# EAGLE library part 95278-801A30LF (library SamacSys_Parts)
BergStik, Board to Board connector, Unshrouded Header, SMT, Double Row, 30 Positions, 2.54 mm Pitch, Vertical, 5.84 mm (0.23 in.) Mating Source: Datasheet <https://componentsearchengine.com/Datasheets/1/95278-801A30LF.pdf>
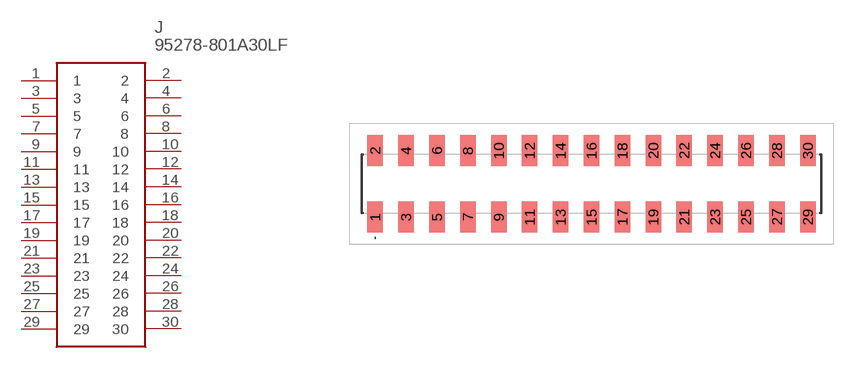
[diagram p135: symbol with the pads of 95278801A30LF; footprint 95278801A30LF]

Designator prefix J

## 95278-801A30LF (DESCRIPTION: BergStik, Board to Board connector, Unshrouded Header, SMT, Double Row, 30 Positions, 2.54 mm Pitch, Vertical, 5.84 mm (0.23 in.) Mating; HEIGHT: 9.9mm; MANUFACTURER_NAME: Amphenol; MANUFACTURER_PART_NUMBER: 95278-801A30LF; MOUSER_PART_NUMBER: 649-95278-801A30LF; MOUSER_PRICE-STOCK: https://www.mouser.com/Search/Refine.aspx?Keyword=649-95278-801A30LF)  [95278801A30LF]
1  1
2  2
3  3
4  4
5  5
6  6
7  7
8  8
9  9
10  10
11  11
12  12
13  13
14  14
15  15
16  16
17  17
18  18
19  19
20  20
21  21
22  22
23  23
24  24
25  25
26  26
27  27
28  28
29  29
30  30

## Footprint 95278801A30LF (pad centres in mm)
95278-801A30LF-5
smd 1.27 x 2.54: 1 -17.78,-2.73; 2 -17.78,2.73; 3 -15.24,-2.73; 4 -15.24,2.73; 5 -12.7,-2.73; 6 -12.7,2.73; 7 -10.16,-2.73; 8 -10.16,2.73; 9 -7.62,-2.73; 10 -7.62,2.73; 11 -5.08,-2.73; 12 -5.08,2.73; 13 -2.54,-2.73; 14 -2.54,2.73; 15 0,-2.73; 16 0,2.73; 17 2.54,-2.73; 18 2.54,2.73; 19 5.08,-2.73; 20 5.08,2.73; 21 7.62,-2.73; 22 7.62,2.73; 23 10.16,-2.73; 24 10.16,2.73; 25 12.7,-2.73; 26 12.7,2.73; 27 15.24,-2.73; 28 15.24,2.73; 29 17.78,-2.73; 30 17.78,2.73